# Altium schematic symbol library SN.SchLib: 1 symbol
Pins are listed as number, name and electrical type; pins without a type are passive.

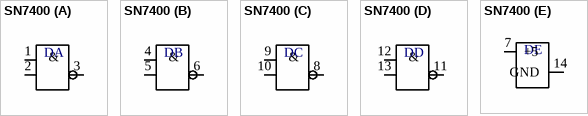
[diagram p0: symbol SN7400]

## SN7400
designator D  (value not drawn)
footprint SOP127-14N (SOP, 14-Leads, Body 8,65x3,90mm, Pitch 1,27mm, IPC Medium Density)
part A pins: 1, 2, 3
part B pins: 4, 5, 6
part C pins: 8, 9, 10
part D pins: 11, 12, 13
part E pins: 7 +5, 14 GND
part A text: &
part B text: &
part C text: &
part D text: &